# Altium schematic symbol library TMJ107CB7105KAHR.SchLib: 1 symbol
Pins are listed as number, name and electrical type; pins without a type are passive.

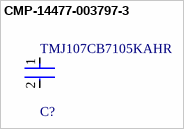
[diagram p0: symbol CMP-14477-003797-3]

## CMP-14477-003797-3
designator C?, comment TMJ107CB7105KAHR
CAP CER 1UF 25V X7R 0603; Tolerance: 10%; Case Code (Imperial): 0603; RoHS Compliant: Yes; Features: Soft Termination; Capacitance: 1uF; Case/Package: 0603; Voltage Rating: 25V; Case Code (Metric): 1608; Thickness: 0.035inch; Ratings: AEC-Q200; Mount: Surface Mount; Packaging: Cut Tape; Min Operating Temperature: -55°C; Length: 0.063inch; Max Operating Temperature: 125°C; Width: 0.031inch
footprint FP-0603-L_1_6_0_25-W_0_8-IPC_B
footprint FP-0603-L_1_6_0_25-W_0_8-MFG
footprint FP-0603-L_1_6_0_25-W_0_8-IPC_A
footprint FP-0603-L_1_6_0_25-W_0_8-IPC_C
pins: 1, 2